# Altium integrated library Capacitors.IntLib: 87 symbols
Pins are listed as number, name and electrical type; pins without a type are passive.

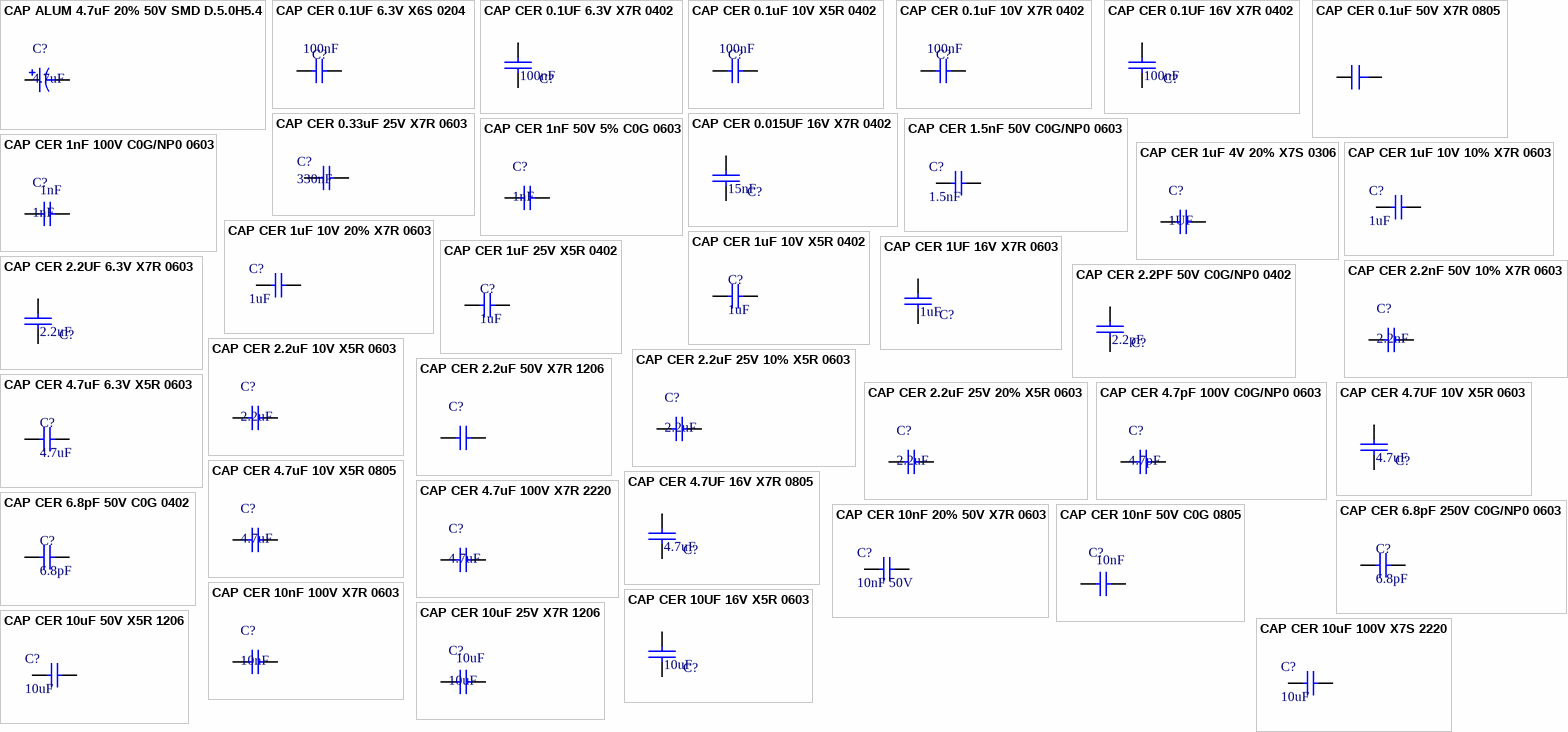
[diagram p0: symbols CAP ALUM 4.7uF 20% 50V SMD D.5.0H5.4 to CAP CER 10uF 100V X7S 2220]

## CAP ALUM 4.7uF 20% 50V SMD D.5.0H5.4
designator C?, comment 4.7uF
4.7µF 50V Aluminum Electrolytic Capacitors Radial, Can - SMD  2000 Hrs @ 85°C; Manufacturer 1: Nichicon; Part Number 1: UWX1H4R7MCL1GB; VALUE: 4.7uF
pins: 1, 2

## CAP CER 0.1UF 6.3V X6S 0204
designator C?, comment 100nF
0.1µF ±20% 6.3V Ceramic Capacitor X6S 0204 (0510 Metric); Part Number 1: LLL153C80J104ME01E; Manufacturer 1: Murata Electronics; VALUE: 100nF
footprint CAP_0204
pins: 1, 2

## CAP CER 0.1UF 6.3V X7R 0402
designator C?, comment 100nF
0.1µF ±10% 6.3V Ceramic Capacitor X7R 0402 (1005 Metric); PartNumber1: 0402B104K6R3CT; Value: 100nF
footprint SMD_0402
pins: 1, 2

## CAP CER 0.1uF 10V X5R 0402
designator C?, comment 100nF
0.1µF ±10% 10V Ceramic Capacitor X5R 0402 (1005 Metric); Manufacturer Part Number 1: CL05A104KP5NNNC; Manufacturer 1: Samsung Electro-Mechanics; TYPE: SMD CAPACITOR; Supplier 1: Allied; Supplier 2: Newark; Supplier 3: Newark; Supplier 4: Newark; Supplier 5: Allied; Supplier 6: Digi-Key; Supplier 7: Digi-Key; Supplier 8: Digi-Key; Supplier 9: Digi-Key; Supplier Part Number 1: 70095395; Supplier Part Number 2: 81C8514; Supplier Part Number 3: 96M1117; Supplier Part Number 4: 49H5566; Supplier Part Number 5: 70096886; Supplier Part Number 6: 445-12156-2-ND; Supplier Part Number 7: 445-12156-1-ND; Supplier Part Number 8: 445-12156-6-ND; Supplier Part Number 9: 445-12157-2-ND; VALUE: 100nF
footprint SMD_0402
pins: 1, 2

## CAP CER 0.1uF 10V X7R 0402
designator C?, comment 100nF
0.1µF ±10% 10V Ceramic Capacitor X7R 0402 (1005 Metric); Part Number 1: GRM155R71A104KA01J; Manufacturer 1: Murata Electronics North America; TYPE: SMD CAPACITOR; Supplier 1: Digi-Key; Supplier 2: Digi-Key; Supplier 3: Digi-Key; Supplier 4: Digi-Key; Supplier 5: Digi-Key; Supplier 6: Digi-Key; Supplier 7: Digi-Key; Supplier 8: Digi-Key; Supplier 9: Digi-Key; Supplier Part Number 1: 490-6322-2-ND; Supplier Part Number 2: 399-3520-6-ND; Supplier Part Number 3: 399-8942-1-ND; Supplier Part Number 4: 399-3520-1-ND; Supplier Part Number 5: 1276-1002-2-ND; Supplier Part Number 6: 399-8942-6-ND; Supplier Part Number 7: 490-6322-6-ND; Supplier Part Number 8: 399-3520-2-ND; Supplier Part Number 9: 490-6322-1-ND; VALUE: 100nF
footprint SMD_0402
pins: 1, 2

## CAP CER 0.1UF 16V X7R 0402
designator C?, comment value 100nF  (hidden comment: 0.1uF)
0.1µF ±5% 16V Ceramic Capacitor X7R 0402 (1005 Metric); PartNumber1: CC0402JRX7R7BB104
footprint SMD_0402
pins: 1, 2

## CAP CER 0.1uF 50V X7R 0805
designator C?, comment 0.1uF
0.1µF ±10% 50V Ceramic Capacitor X7R 0805 (2012 Metric); Manufacturer 1: AVX; AVX: 08055C104KAT2A; Part Number 1: 08055C104KAT2A
footprint SMD_0805 (Generic 0805 SMD footprint)
pins: 1, 2

## CAP CER 0.015UF 16V X7R 0402
designator C?, comment 15nF
0.015µF ±5% 16V Ceramic Capacitor X7R 0402 (1005 Metric); PartNumber1: 0402B104K6R3CT; Value: 15nF
footprint SMD_0402
pins: 1, 2

## CAP CER 0.33uF 25V X7R 0603
designator C?, comment 330nF
0.33µF ±10% 25V Ceramic Capacitor X7R 0603 (1608 Metric); Manufacturer 1: Yageo; Part Number 1: CC0603KRX7R8BB334
footprint SMD_0603 (General SMD 0603 footprint)
pins: 1, 2

## CAP CER 1.5nF 50V C0G/NP0 0603
designator C?, comment 1.5nF
1500pF ±5% 50V Ceramic Capacitor C0G, NP0 0603 (1608 Metric); Part Number 1: C0603C152J5GACTU; Manufacturer 1: KEMET
footprint SMD_0603 (General SMD 0603 footprint)
pins: 1, 2

## CAP CER 1nF 50V 5% C0G 0603
designator C?, comment 1nF
1000pF ±5% 50V Ceramic Capacitor C0G, NP0 0603 (1608 Metric); Manufacturer 1: MURATA; DESCRIPITION: GRM1885C1H102JA01D; Part Number 1: GRM1885C1H102JA01D; VALUE: 1nF
footprint SMD_0603 (General SMD 0603 footprint)
pins: 1, 2

## CAP CER 1nF 100V C0G/NP0 0603
designator C?, comment 1nF
1000pF ±1% 100V Ceramic Capacitor C0G, NP0 0603 (1608 Metric); Part Number 1: GRM1885C2A102FA01D; Manufacturer 1: Murata Electronics North America; TYPE: SMD CAPACITOR; VALUE: 1nF
footprint SMD_0603 (General SMD 0603 footprint)
pins: 1, 2

## CAP CER 1uF 4V 20% X7S 0306
designator C?, comment 1UF
1µF ±20% 4V Ceramic Capacitor X7S 0306 (0816 Metric); Part Number 1: C0816X7S0G105M050AC; Manufacturer 1: TDK Corporation
footprint SMD_0306 (General SMD 0306 footprint)
pins: 1, 2

## CAP CER 1uF 10V 10% X7R 0603
designator C?, comment 1uF
1µF ±10% 10V Ceramic Capacitor X7R 0603 (1608 Metric); Manufacturer 1: Taiyo Yuden; TAIYO: LMK107B7105KA-T; Part Number 1: LMK107B7105KA-T
footprint SMD_0603 (General SMD 0603 footprint)
pins: 1, 2

## CAP CER 1uF 10V 20% X7R 0603
designator C?, comment 1uF
1µF ±10% 16V Ceramic Capacitor X7R 0603 (1608 Metric); Manufacturer 1: Samsung Electro-Mechanics; Part Number 1: CL10B105KO8NNNC; MURATA: GRM188R71A105MA61D
footprint SMD_0603 (General SMD 0603 footprint)
pins: 1, 2

## CAP CER 1uF 10V X5R 0402
designator C?, comment 1uF
0.1µF ±10% 10V Ceramic Capacitor X5R 0402 (1005 Metric); Manufacturer 1: AVX Corporation; Part Number 1: 0402ZD104KAT2A; Supplier 1: Digi-Key; Supplier 2: Digi-Key; Supplier 3: Digi-Key; Supplier 4: Digi-Key; Supplier 5: Digi-Key; Supplier 6: Digi-Key; Supplier 7: Digi-Key; Supplier 8: Digi-Key; Supplier 9: Digi-Key; Supplier 10: Digi-Key; Supplier Part Number 1: 478-1129-6-ND; Supplier Part Number 2: 490-1318-2-ND; Supplier Part Number 3: 478-1129-1-ND; Supplier Part Number 4: 490-1318-6-ND; Supplier Part Number 5: 587-1227-1-ND; Supplier Part Number 6: 490-1318-1-ND; Supplier Part Number 7: 587-1227-2-ND; Supplier Part Number 8: 587-1227-6-ND; Supplier Part Number 9: 445-1265-2-ND; Supplier Part Number 10: 478-1129-2-ND; VALUE: 1uF
footprint SMD_0402
pins: 1, 2

## CAP CER 1UF 16V X7R 0603
designator C?, comment 1uF
1µF ±10% 16V Ceramic Capacitor X7R 0603 (1608 Metric); PartNumber1: CL10B105KO8NNNC; Value: 1uF
footprint SMD_0603 (General SMD 0603 footprint)
pins: 1, 2

## CAP CER 1uF 25V X5R 0402
designator C?, comment 1uF
1µF ±10% 25V Ceramic Capacitor X5R 0402 (1005 Metric); Manufacturer 1: TDK Corporation; Part Number 1: CGB2A1X5R1E105K033BC; VALUE: 1uF; Supplier 1: RSComponents; Supplier 2: RSComponents; Supplier 3: RSComponents; Supplier 4: RSComponents; Supplier 5: RSComponents; Supplier 6: Digi-Key; Supplier 7: Digi-Key; Supplier 8: Digi-Key; Supplier 9: Digi-Key; Supplier 10: Digi-Key; Supplier 11: Digi-Key; Supplier 12: Digi-Key; Supplier 13: Digi-Key; Supplier 14: Digi-Key; Supplier 15: Digi-Key; Supplier Part Number 1: 9156323; Supplier Part Number 2: 1110310; Supplier Part Number 3: 1110311; Supplier Part Number 4: 9156332P; Supplier Part Number 5: 9156323P; Supplier Part Number 6: 445-175215-2-ND; Supplier Part Number 7: 587-3245-2-ND; Supplier Part Number 8: 445-9081-6-ND; Supplier Part Number 9: 445-9066-6-ND; Supplier Part Number 10: 587-3245-1-ND; Supplier Part Number 11: 445-9066-1-ND; Supplier Part Number 12: 445-9081-1-ND; Supplier Part Number 13: 445-9081-2-ND; Supplier Part Number 14: 445-9066-2-ND; Supplier Part Number 15: 587-3245-6-ND
footprint SMD_0402
pins: 1, 2

## CAP CER 2.2nF 50V 10% X7R 0603
designator C?, comment 2.2nF
2200pF ±10% 50V Ceramic Capacitor X7R 0603 (1608 Metric); Part Number 1: C1608X7R1H222K080AE; Manufacturer 1: TDK Corporation; VALUE: 2.2nF
footprint SMD_0603 (General SMD 0603 footprint)
pins: 1, 2

## CAP CER 2.2PF 50V C0G/NP0 0402
designator C?, comment 2.2pF
2.2pF ±0.25pF 50V Ceramic Capacitor C0G, NP0 0402 (1005 Metric); PartNumber1: GJM1555C1H2R2CB01D; Value: 2.2pF
footprint SMD_0402
pins: 1, 2

## CAP CER 2.2UF 6.3V X7R 0603
designator C?, comment 2.2uF
2.2µF ±10% 6.3V Ceramic Capacitor X7R 0603 (1608 Metric); PartNumber1: CGA3E1X7R0J225K080AC; Value: 2.2uF
footprint SMD_0603 (General SMD 0603 footprint)
pins: 1, 2

## CAP CER 2.2uF 10V X5R 0603
designator C?, comment 2.2uF
2.2µF ±10% 10V Ceramic Capacitor X5R 0603 (1608 Metric); Manufacturer 1: Samsung Electro-Mechanics; Part Number 1: CL10A225KP8NNNC; VALUE: 2.2uF; Supplier 1: RSComponents; Supplier 2: Digi-Key; Supplier 3: Digi-Key; Supplier 4: Digi-Key; Supplier 5: Digi-Key; Supplier 6: Digi-Key; Supplier 7: Digi-Key; Supplier 8: Digi-Key; Supplier 9: Digi-Key; Supplier 10: RSComponents; Supplier 11: RSComponents; Supplier 12: Digi-Key; Supplier 13: RSComponents; Supplier 14: RSComponents; Supplier 15: Digi-Key; Supplier Part Number 1: 6911158; Supplier Part Number 2: 445-7481-1-ND; Supplier Part Number 3: 445-12445-1-ND; Supplier Part Number 4: 399-4912-1-ND; Supplier Part Number 5: 587-4911-2-ND; Supplier Part Number 6: 445-7481-6-ND; Supplier Part Number 7: 445-12445-6-ND; Supplier Part Number 8: 399-4912-2-ND; Supplier Part Number 9: 445-12445-2-ND; Supplier Part Number 10: 691-1158; Supplier Part Number 11: 1721386; Supplier Part Number 12: 399-4912-6-ND; Supplier Part Number 13: 6911158P; Supplier Part Number 14: 691-1158P; Supplier Part Number 15: 445-7481-2-ND
footprint SMD_0603 (General SMD 0603 footprint)
pins: 1, 2

## CAP CER 2.2uF 25V 10% X5R 0603
designator C?, comment 2.2uF
2.2µF ±10% 25V Ceramic Capacitor X5R 0603 (1608 Metric); Part Number 1: C1608X5R1E225K080AB; Manufacturer 1: TDK Corporation; VALUE: 2.2uF
footprint SMD_0603 (General SMD 0603 footprint)
pins: 1, 2

## CAP CER 2.2uF 25V 20% X5R 0603
designator C?, comment 2.2uF
2.2µF ±20% 25V Ceramic Capacitor X5R 0603 (1608 Metric); Part Number 1: C1608X5R1E225M080AB; Manufacturer 1: TDK Corporation; VALUE: 2.2uF
footprint SMD_0603 (General SMD 0603 footprint)
pins: 1, 2

## CAP CER 2.2uF 50V X7R 1206
designator C?, comment 2.2uF  (value not drawn)
2.2µF ±10% 50V Ceramic Capacitor X7R 1206 (3216 Metric); Part Number 1: UMK316B7225KL-T; Manufacturer 1: Taiyo Yuden; VALUE: 2.2uF
footprint SMD_1206 (General SMD 1206 footprint)
pins: 1, 2

## CAP CER 4.7pF 100V C0G/NP0 0603
designator C?, comment 4.7pF
4.7pF ±0.1pF 100V Ceramic Capacitor C0G, NP0 0603 (1608 Metric); Part Number 1: GQM1885C2A4R7BB01D; Manufacturer 1: Murata Electronics North America; VALUE: 4.7pF
footprint SMD_0603 (General SMD 0603 footprint)
pins: 1, 2

## CAP CER 4.7uF 6.3V X5R 0603
designator C?, comment 4.7uF
4.7µF ±10% 6.3V Ceramic Capacitor X5R 0603 (1608 Metric); Part Number 1: CL10A475KQ8NNNC; Manufacturer 1: Samsung Electro-Mechanics; Supplier 1: Digi-Key; Supplier 2: Digi-Key; Supplier 3: Digi-Key; Supplier 4: Digi-Key; Supplier 5: Digi-Key; Supplier 6: Digi-Key; Supplier 7: Digi-Key; Supplier 8: Digi-Key; Supplier 9: Digi-Key; Supplier Part Number 1: 587-4906-6-ND; Supplier Part Number 2: 1276-2087-2-ND; Supplier Part Number 3: 1276-2087-1-ND; Supplier Part Number 4: 1276-2087-6-ND; Supplier Part Number 5: 587-4906-2-ND; Supplier Part Number 6: 587-4906-1-ND; Supplier Part Number 7: 311-3496-2-ND; Supplier Part Number 8: 311-3496-1-ND; Supplier Part Number 9: 311-3496-6-ND; VALUE: 4.7uF
footprint SMD_0603 (General SMD 0603 footprint)
pins: 1, 2

## CAP CER 4.7UF 10V X5R 0603
designator C?, comment 4.7uF
4.7µF ±10% 10V Ceramic Capacitor X5R 0603 (1608 Metric); PartNumber1: CL10A475KP8NNNC; Value: 4.7uF
footprint SMD_0603 (General SMD 0603 footprint)
pins: 1, 2

## CAP CER 4.7uF 10V X5R 0805
designator C?, comment 4.7uF
4.7µF ±10% 10V Ceramic Capacitor X5R 0805 (2012 Metric); Part Number 1: LMK212BJ475KD-T; Manufacturer 1: Taiyo Yuden; VALUE: 4.7uF
footprint SMD_0805 (Generic 0805 SMD footprint)
pins: 1, 2

## CAP CER 4.7UF 16V X7R 0805
designator C?, comment 4.7uF
4.7µF ±10% 16V Ceramic Capacitor X7R 0805 (2012 Metric); PartNumber1: C0805C475K4RACTU; Value: 4.7uF
footprint SMD_0805 (Generic 0805 SMD footprint)
pins: 1, 2

## CAP CER 4.7uF 100V X7R 2220
designator C?, comment 4.7uF
4.7µF ±10% 100V Ceramic Capacitor X7R 2220 (5750 Metric); Part Number 1: 22201C475KAZ2A; Manufacturer 1: AVX Corporation; VALUE: 4.7uF
footprint SMD_2220
pins: 1, 2

## CAP CER 6.8pF 50V C0G 0402
designator C?, comment 6.8pF
6.8pF ±0.25pF 50V Ceramic Capacitor C0G, NP0 0402 (1005 Metric); Manufacturer Part Number 1: 04025A6R8CAT2A; Manufacturer 1: AVX Corporation; TYPE: SMD CAPACITOR; Supplier 1: Digi-Key; Supplier 2: Digi-Key; Supplier 3: Digi-Key; Supplier 4: Digi-Key; Supplier 5: RSComponents; Supplier 6: RSComponents; Supplier 7: Digi-Key; Supplier 8: Digi-Key; Supplier 9: Digi-Key; Supplier 10: Digi-Key; Supplier 11: Digi-Key; Supplier 12: Digi-Key; VALUE: 6.8pF; Supplier Part Number 1: 1276-1721-1-ND; Supplier Part Number 2: 1276-1721-6-ND; Supplier Part Number 3: 490-5950-2-ND; Supplier Part Number 4: 1276-1721-2-ND; Supplier Part Number 5: 1109726; Supplier Part Number 6: 9155578P; Supplier Part Number 7: 712-1291-2-ND; Supplier Part Number 8: 490-12599-1-ND; Supplier Part Number 9: 490-12599-6-ND; Supplier Part Number 10: 490-5950-6-ND; Supplier Part Number 11: 490-5950-1-ND; Supplier Part Number 12: 490-12599-2-ND
footprint SMD_0402
pins: 1, 2

## CAP CER 6.8pF 250V C0G/NP0 0603
designator C?, comment 6.8pF
6.8pF ±0.25pF 250V Ceramic Capacitor C0G, NP0 0603 (1608 Metric); Manufacturer 1: KEMET; Part Number 1: CBR06C689CAGAC; VALUE: 6.8pF
footprint SMD_0603 (General SMD 0603 footprint)
pins: 1, 2

## CAP CER 10nF 20% 50V X7R 0603
designator C?, comment 10nF 50V
10000pF ±10% 50V Ceramic Capacitor X7R 0603 (1608 Metric); Part Number 1: 06035C103KAT4A; Manufacturer 1: AVX Corporation; MURATA: GRM188R71H103KA01D; MOUSER: http://br.mouser.com/ProductDetail/Murata-Electronics/GRM188R71H103KA01D/?qs=WWniysbtxULrL2ljbViAbw==
footprint SMD_0603 (General SMD 0603 footprint)
pins: 1, 2

## CAP CER 10nF 50V C0G 0805
designator C?, comment 10nF
10000pF ±5% 50V Ceramic Capacitor C0G, NP0 0805 (2012 Metric); Manufacturer 1: TDK Corporation; Part Number 1: CGJ4C2C0G1H103J060AA; VALUE: 10nF
footprint SMD_0805 (Generic 0805 SMD footprint)
pins: 1, 2

## CAP CER 10nF 100V X7R 0603
designator C?, comment 10nF
10000pF ±10% 100V Ceramic Capacitor X7R 0603 (1608 Metric); Part Number 1: C1608X7R2A103K080AA; Manufacturer 1: TDK Corporation; VALUE: 10nF
footprint SMD_0603 (General SMD 0603 footprint)
pins: 1, 2

## CAP CER 10UF 16V X5R 0603
designator C?, comment 10uF
10µF ±10% 16V Ceramic Capacitor X5R 0603 (1608 Metric); PartNumber1: GRM188R61C106KAALD; Value: 10uF
footprint SMD_0603 (General SMD 0603 footprint)
pins: 1, 2

## CAP CER 10uF 25V X7R 1206
designator C?, comment 10uF
10µF ±10% 25V Ceramic Capacitor X7R 1206 (3216 Metric); Part Number 1: C3216X7R1E106K160AB; Manufacturer 1: TDK Corporation; VALUE: 10uF
footprint SMD_1206 (General SMD 1206 footprint)
pins: 1, 2

## CAP CER 10uF 50V X5R 1206
designator C?, comment 10uF
10µF ±20% 50V Ceramic Capacitor X5R 1206 (3216 Metric); Part Number 1: UMK316BBJ106ML-T; Manufacturer 1: Taiyo Yuden; VALUE: 10uF
footprint SMD_1206 (General SMD 1206 footprint)
pins: 1, 2

## CAP CER 10uF 100V X7S 2220
designator C?, comment 10uF
10µF ±20% 100V Ceramic Capacitor X7S 2220 (5750 Metric); Part Number 1: CGA9N3X7S2A106M230KE; Manufacturer 1: TDK Corporation
footprint SMD_2220
pins: 1, 2

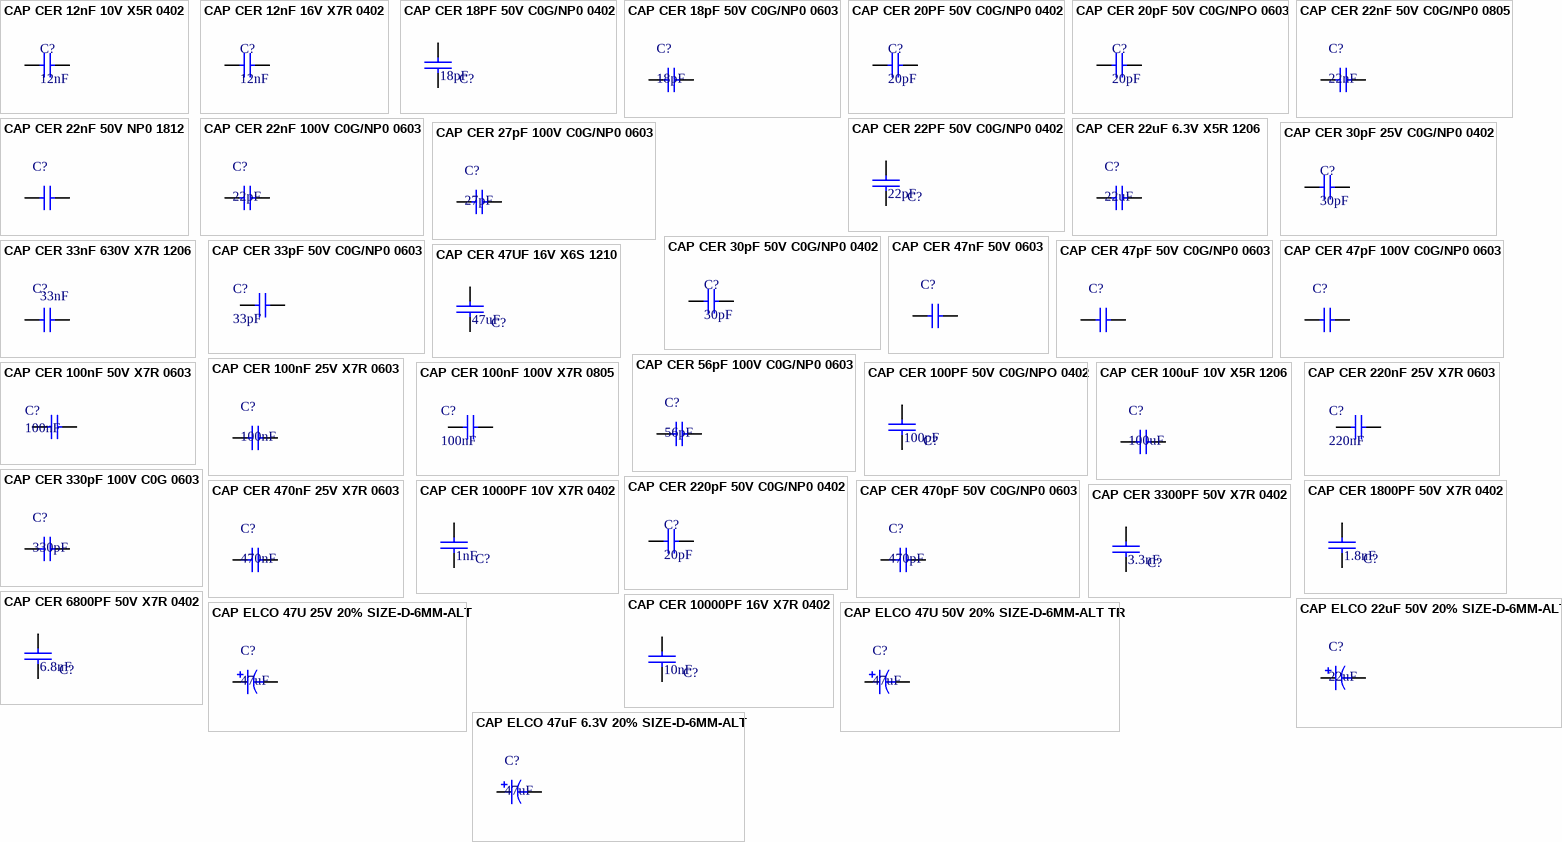
[diagram p1: symbols CAP CER 12nF 10V X5R 0402 to CAP ELCO 47uF 6.3V 20% SIZE-D-6MM-ALT]

## CAP CER 12nF 10V X5R 0402
designator C?, comment 12nF
0.012µF ±10% 10V Ceramic Capacitor X5R 0402 (1005 Metric); Manufacturer 1: KEMET; Part Number 1: C0402C123K8PACTU; VALUE: 12nF; Supplier 1: Digi-Key; Supplier 2: Digi-Key; Supplier 3: Digi-Key; Supplier Part Number 1: 399-3009-2-ND; Supplier Part Number 2: 399-3009-1-ND; Supplier Part Number 3: 399-3009-6-ND
footprint SMD_0402
pins: 1, 2

## CAP CER 12nF 16V X7R 0402
designator C?, comment 12nF
±10% 16V Ceramic Capacitor X7R 0402 (1005 Metric); Manufacturer 1: Yageo; Part Number 1: CC0402KRX7R7BB123; VALUE: 12nF; Supplier 1: Digi-Key; Supplier 2: Digi-Key; Supplier 3: Digi-Key; Supplier 4: RSComponents; Supplier 5: Digi-Key; Supplier 6: RSComponents; Supplier 7: Digi-Key; Supplier 8: RSComponents; Supplier 9: Digi-Key; Supplier 10: Digi-Key; Supplier 11: Digi-Key; Supplier 12: Digi-Key; Supplier 13: Digi-Key; Supplier 14: RSComponents; Supplier Part Number 1: 490-16765-2-ND; Supplier Part Number 2: 478-1115-2-ND; Supplier Part Number 3: 478-1115-6-ND; Supplier Part Number 4: 790-2789P; Supplier Part Number 5: 478-1115-1-ND; Supplier Part Number 6: 790-2789; Supplier Part Number 7: 311-3800-6-ND; Supplier Part Number 8: 7902789; Supplier Part Number 9: 490-3255-2-ND; Supplier Part Number 10: 490-16765-6-ND; Supplier Part Number 11: 311-3800-1-ND; Supplier Part Number 12: 311-3800-2-ND; Supplier Part Number 13: 490-16765-1-ND; Supplier Part Number 14: 7902789P
footprint SMD_0402
pins: 1, 2

## CAP CER 18PF 50V C0G/NP0 0402
designator C?, comment 18pF
18pF ±1% 50V Ceramic Capacitor C0G, NP0 0402 (1005 Metric); PartNumber1: GJM1555C1H180FB01D; Value: 18pF
footprint SMD_0402
pins: 1, 2

## CAP CER 18pF 50V C0G/NP0 0603
designator C?, comment 18pF
18pF ±5% 50V Ceramic Capacitor C0G, NP0 0603 (1608 Metric); Part Number 1: VJ0603A180JXACW1BC; Manufacturer 1: Vishay Vitramon; VALUE: 18pF
footprint SMD_0603 (General SMD 0603 footprint)
pins: 1, 2

## CAP CER 20PF 50V C0G/NP0 0402
designator C?, comment 20pF
20pF ±5% 50V Ceramic Capacitor C0G, NP0 0402 (1005 Metric); Manufacturer 1: Samsung Electro-Mechanics; Part Number 1: CL05C200JB5NNNC; VALUE: 20pF; Supplier 1: Digi-Key; Supplier 2: Digi-Key; Supplier 3: Digi-Key; Supplier 4: RSComponents; Supplier 5: Digi-Key; Supplier 6: Digi-Key; Supplier 7: Digi-Key; Supplier 8: Digi-Key; Supplier 9: RSComponents; Supplier 10: Digi-Key; Supplier 11: Digi-Key; Supplier 12: Digi-Key; Supplier 13: RSComponents; Supplier 14: RSComponents; Supplier 15: RSComponents; Supplier 16: RSComponents; Supplier 17: RSComponents; Supplier 18: RSComponents; Supplier 19: RSComponents; Supplier 20: RSComponents; Supplier 21: RSComponents; Supplier 22: RSComponents; Supplier 23: RSComponents; Supplier 24: RSComponents; Supplier 25: RSComponents; Supplier 26: RSComponents; Supplier 27: RSComponents; Supplier Part Number 1: 399-8786-1-ND; Supplier Part Number 2: 399-8786-2-ND; Supplier Part Number 3: 490-3120-6-ND; Supplier Part Number 4: 801-5167; Supplier Part Number 5: 712-1273-2-ND; Supplier Part Number 6: 399-8786-6-ND; Supplier Part Number 7: 478-5764-1-ND; Supplier Part Number 8: 490-3120-2-ND; Supplier Part Number 9: 801-5167P; Supplier Part Number 10: 490-3120-1-ND; Supplier Part Number 11: 478-5764-2-ND; Supplier Part Number 12: 478-5764-6-ND; Supplier Part Number 13: 8015167; Supplier Part Number 14: 814-5561; Supplier Part Number 15: 8145561; Supplier Part Number 16: 814-5561P; Supplier Part Number 17: 8145558; Supplier Part Number 18: 1352536; Supplier Part Number 19: 7697080P; Supplier Part Number 20: 814-5558; Supplier Part Number 21: 7697080; Supplier Part Number 22: 8145561P; Supplier Part Number 23: 769-7080; Supplier Part Number 24: 814-5558P; Supplier Part Number 25: 769-7080P; Supplier Part Number 26: 8145558P; Supplier Part Number 27: 8015167P
footprint SMD_0402
pins: 1, 2

## CAP CER 20pF 50V C0G/NPO 0603
designator C?, comment 20pF
20pF ±5% 50V Ceramic Capacitor C0G, NP0 0603 (1608 Metric); Part Number 1: CC0603JRNPO9BN200; Manufacturer 1: Yageo; VALUE: 20pF
footprint SMD_0603 (General SMD 0603 footprint)
pins: 1, 2

## CAP CER 22nF 50V C0G/NP0 0805
designator C?, comment 22nF
0.022µF ±5% 50V Ceramic Capacitor C0G, NP0 0805 (2012 Metric); Part Number 1: GRM21B5C1H223JA01L; Manufacturer 1: Murata Electronics North America; VALUE: 22nF
footprint SMD_0805 (Generic 0805 SMD footprint)
pins: 1, 2

## CAP CER 22nF 50V NP0 1812
designator C?, comment 22nF  (value not drawn)
0.022µF ±5% 50V Ceramic Capacitor C0G, NP0 1812 (4532 Metric); Manufacturer 1: AVX Corporation; Part Number 1: 18125A223JAT2A; VALUE: 22nF
footprint SMD_1812 (General SMD 1812 footprint)
pins: 1, 2

## CAP CER 22nF 100V C0G/NP0 0603
designator C?, comment 22pF
22pF ±5% 100V Ceramic Capacitor C0G, NP0 0603 (1608 Metric); Manufacturer 1: Murata Electronics North America; Part Number 1: GRM1885C2A220JA01D; VALUE: 22pF
footprint SMD_0603 (General SMD 0603 footprint)
pins: 1, 2

## CAP CER 22PF 50V C0G/NP0 0402
designator C?, comment 22pF
22pF ±1% 50V Ceramic Capacitor C0G, NP0 0402 (1005 Metric); PartNumber1: CBR04C220F5GAC; Value: 22pF
footprint SMD_0402
pins: 1, 2

## CAP CER 22uF 6.3V X5R 1206
designator C?, comment 22uF
22µF ±10% 6.3V Ceramic Capacitor X5R 1206 (3216 Metric); Manufacturer 1: Samsung Electro-Mechanics; Part Number 1: CL31A226KQHNNNE; VALUE: 22uF
footprint SMD_1206 (General SMD 1206 footprint)
pins: 1, 2

## CAP CER 27pF 100V C0G/NP0 0603
designator C?, comment 27pF
27pF ±10% 100V Ceramic Capacitor C0G, NP0 0603 (1608 Metric); Manufacturer 1: AVX Corporation; Part Number 1: 06031A270KAT2A; VALUE: 27pF
footprint SMD_0603 (General SMD 0603 footprint)
pins: 1, 2

## CAP CER 30pF 25V C0G/NP0 0402
designator C?, comment 30pF
30pF ±2% 25V Ceramic Capacitor C0G, NP0 0402 (1005 Metric); VALUE: 30pF; Supplier 1: Digi-Key; Supplier 2: Digi-Key; Supplier 3: Digi-Key; Supplier 4: Digi-Key; Supplier 5: Digi-Key; Supplier 6: Digi-Key; Supplier 7: Farnell; Supplier 8: Newark; Supplier 9: Digi-Key; Supplier 10: Digi-Key; Supplier 11: Newark; Supplier 12: Digi-Key; Supplier 13: Digi-Key; Supplier 14: Farnell; Supplier 15: Farnell; Supplier 16: Farnell; Supplier 17: Farnell; Supplier Part Number 1: 490-8176-1-ND; Supplier Part Number 2: 490-8176-2-ND; Supplier Part Number 3: 712-1596-2-ND; Supplier Part Number 4: 712-1595-6-ND; Supplier Part Number 5: 490-8176-6-ND; Supplier Part Number 6: 712-1595-1-ND; Supplier Part Number 7: 2678276; Supplier Part Number 8: 96M1336; Supplier Part Number 9: 712-1596-1-ND; Supplier Part Number 10: 490-7752-2-ND; Supplier Part Number 11: 96Y8175; Supplier Part Number 12: 712-1596-6-ND; Supplier Part Number 13: 712-1595-2-ND; Supplier Part Number 14: 2678259; Supplier Part Number 15: 2680053; Supplier Part Number 16: 2280762; Supplier Part Number 17: 1740653
footprint SMD_0402
pins: 1, 2

## CAP CER 30pF 50V C0G/NP0 0402
designator C?, comment 30pF
30pF ±5% 50V Ceramic Capacitor C0G, NP0 0402 (1005 Metric); Manufacturer 1: Samsung Electro-Mechanics; Part Number 1: CL05C300JB5NNNC; VALUE: 30pF; Supplier 1: RSComponents; Supplier 2: RSComponents; Supplier 3: RSComponents; Supplier 4: RSComponents; Supplier 5: Digi-Key; Supplier 6: Digi-Key; Supplier 7: Digi-Key; Supplier 8: Digi-Key; Supplier 9: Digi-Key; Supplier 10: Digi-Key; Supplier 11: Digi-Key; Supplier 12: Digi-Key; Supplier 13: Digi-Key; Supplier 14: Digi-Key; Supplier Part Number 1: 8145634P; Supplier Part Number 2: 8145634; Supplier Part Number 3: 814-5634P; Supplier Part Number 4: 814-5634; Supplier Part Number 5: 399-7785-2-ND; Supplier Part Number 6: 712-1295-1-ND; Supplier Part Number 7: 712-1296-2-ND; Supplier Part Number 8: 712-1296-6-ND; Supplier Part Number 9: 712-1295-2-ND; Supplier Part Number 10: 712-1296-1-ND; Supplier Part Number 11: 712-1295-6-ND; Supplier Part Number 12: 490-5935-1-ND; Supplier Part Number 13: 490-5935-6-ND; Supplier Part Number 14: 490-5935-2-ND
footprint SMD_0402
pins: 1, 2

## CAP CER 33nF 630V X7R 1206
designator C?, comment 33nF
0.033µF ±10% 630V Ceramic Capacitor X7R 1206 (3216 Metric); Manufacturer 1: TDK Corporation; Part Number 1: C3216X7R2J333K160AA; Supplier 1: Digi-Key; Supplier 2: Digi-Key; Supplier 3: Digi-Key; Supplier 4: Arrow; Supplier 5: Mouser; Supplier 6: RSComponents; Supplier 7: Avnet; Supplier 8: Avnet; Supplier 9: Farnell; Supplier 10: RSComponents; Supplier 11: RSComponents; Supplier 12: Newark; Supplier 13: Newark; Supplier 14: Newark; Supplier 15: RSComponents; Supplier 16: RSComponents; Supplier 17: Arrow; Supplier 18: Future Electronics; Supplier 19: Future Electronics; Supplier Part Number 9: 1844644; Supplier Part Number 8: C3216X7R2J333K160AA; Supplier Part Number 7: 91R0107; Supplier Part Number 6: 740-7644P; Supplier Part Number 5: 810-C3216X7R2J333K; Supplier Part Number 4: C3216X7R2J333K160AA; Supplier Part Number 3: 445-4491-2-ND; Supplier Part Number 2: 445-4491-6-ND; Supplier Part Number 19: C3216X7R2J333K160AA; Supplier Part Number 18: 8024090; Supplier Part Number 17: C3216X7R2J333K160AA**MUL; Supplier Part Number 16: 740-7644; Supplier Part Number 15: 7407644P; Supplier Part Number 14: 91R0107; Supplier Part Number 13: 27AC3698; Supplier Part Number 12: 87R4381; Supplier Part Number 11: 7407644; Supplier Part Number 10: 9213965; Supplier Part Number 1: 445-4491-1-ND; VALUE: 33nF
footprint SMD_1206 (General SMD 1206 footprint)
pins: 1, 2

## CAP CER 33pF 50V C0G/NP0 0603
designator C?, comment 33pF
33pF ±5% 50V Ceramic Capacitor C0G, NP0 0603 (1608 Metric); Manufacturer 1: Murata Electronics North America; MURATA: GRM1885C1H330JA01D; Part Number 1: GRM1885C1H330JA01D
footprint SMD_0603 (General SMD 0603 footprint)
pins: 1, 2

## CAP CER 47nF 50V 0603
designator C?, comment 47nF  (value not drawn)
0.047µF ±10% 50V Ceramic Capacitor X7R 0603 (1608 Metric); Manufacturer 1: TDK Corporation; Part Number 1: CGA3E2X7R1H473K080AD
footprint SMD_0603 (General SMD 0603 footprint)
pins: 1, 2

## CAP CER 47pF 50V C0G/NP0 0603
designator C?, comment 47pF  (value not drawn)
47pF ±5% 50V Ceramic Capacitor C0G, NP0 0603 (1608 Metric); Part Number 1: 06035A470JAT2A; Manufacturer 1: AVX Corporation; TYPE: SMD CAPACITOR; VALUE: 47pF; Supplier 1: Digi-Key; Supplier 2: Digi-Key; Supplier 3: Digi-Key; Supplier 4: Digi-Key; Supplier 5: Digi-Key; Supplier 6: Digi-Key; Supplier 7: Digi-Key; Supplier 8: Digi-Key; Supplier 9: Digi-Key; Supplier Part Number 1: 478-1171-2-ND; Supplier Part Number 2: 478-1171-6-ND; Supplier Part Number 3: 709-1145-6-ND; Supplier Part Number 4: 709-1145-1-ND; Supplier Part Number 5: 709-1145-2-ND; Supplier Part Number 6: 478-1171-1-ND; Supplier Part Number 7: 478-6203-6-ND; Supplier Part Number 8: 478-6203-1-ND; Supplier Part Number 9: 478-6203-2-ND
footprint SMD_0603 (General SMD 0603 footprint)
pins: 1, 2

## CAP CER 47pF 100V C0G/NP0 0603
designator C?, comment 47pF  (value not drawn)
47pF ±10% 100V Ceramic Capacitor C0G, NP0 0603 (1608 Metric); Part Number 1: 06031A470KAT2A; Manufacturer 1: AVX Corporation; VALUE: 47pF
footprint SMD_0603 (General SMD 0603 footprint)
pins: 1, 2

## CAP CER 47UF 16V X6S 1210
designator C?, comment 47uF
47µF ±10% 16V Ceramic Capacitor X6S 1210 (3225 Metric); PartNumber1: GRM32EC81C476KE15L; Value: 47uF
footprint SMD_1210 (General SMD 1210 footprint)
pins: 1, 2

## CAP CER 56pF 100V C0G/NP0 0603
designator C?, comment 56pF
56pF ±5% 100V Ceramic Capacitor C0G, NP0 0603 (1608 Metric); Part Number 1: 06031A560JAT2A; Manufacturer 1: AVX Corporation; VALUE: 56pF; Supplier 1: Digi-Key; Supplier 2: Digi-Key; Supplier 3: Digi-Key; Supplier 4: Future Electronics; Supplier 5: Avnet; Supplier 6: Arrow; Supplier 7: Mouser; Supplier 8: Farnell; Supplier 9: RSComponents; Supplier 10: Newark; Supplier 11: Allied Electronics; Supplier 12: Newark; Supplier 13: RSComponents; Supplier 14: Future Electronics; Supplier 15: Future Electronics; Supplier 16: Future Electronics; Supplier Part Number 1: 478-4993-1-ND; Supplier Part Number 10: 65H7693; Supplier Part Number 11: 70001392; Supplier Part Number 12: 96M1230; Supplier Part Number 13: 888-2046; Supplier Part Number 14: 06031A560JAT2A-REEL; Supplier Part Number 15: 1234939; Supplier Part Number 16: 6999544; Supplier Part Number 2: 478-4993-6-ND; Supplier Part Number 3: 478-4993-2-ND; Supplier Part Number 4: 06031A560JAT2A-CUTT; Supplier Part Number 5: 06031A560JAT2A; Supplier Part Number 9: 8882046; Supplier Part Number 8: 1396454; Supplier Part Number 6: 06031A560JAT2A; Supplier Part Number 7: 581-06031A560J
footprint SMD_0603 (General SMD 0603 footprint)
pins: 1, 2

## CAP CER 100nF 25V X7R 0603
designator C?, comment 100nF
0.1µF ±5% 25V Ceramic Capacitor X7R 0603 (1608 Metric); Part Number 1: C0603C104J3RACTU; Manufacturer 1: KEMET; VALUE: 100nF; Supplier 1: Digi-Key; Supplier 2: Digi-Key; Supplier 3: Digi-Key; Supplier 4: Farnell; Supplier 5: Arrow; Supplier 6: Mouser; Supplier 7: RSComponents; Supplier 8: RSComponents; Supplier 9: Farnell; Supplier 10: Farnell; Supplier 11: Avnet; Supplier 12: RSComponents; Supplier 13: Newark; Supplier 14: Newark; Supplier 15: Newark; Supplier 16: Allied Electronics; Supplier 17: Allied Electronics; Supplier 18: Newark; Supplier 19: Newark; Supplier 20: RSComponents; Supplier 21: RSComponents; Supplier 22: Arrow; Supplier 23: Avnet; Supplier 24: Avnet; Supplier 25: Avnet; Supplier Part Number 1: 399-1282-1-ND; Supplier Part Number 10: 2392300; Supplier Part Number 11: C0603C104J3RACTU; Supplier Part Number 12: 1466422; Supplier Part Number 13: 66W8707; Supplier Part Number 14: 79C3853; Supplier Part Number 15: 01J3308; Supplier Part Number 16: 70096967; Supplier Part Number 17: 70095456; Supplier Part Number 5: C0603C104J3RACTU; Supplier Part Number 4: 1650833; Supplier Part Number 3: 399-1282-2-ND; Supplier Part Number 25: C0603C104J3RAC TU; Supplier Part Number 24: C0603C104J3RAC TU/BKN; Supplier Part Number 23: C0603C104J3RAC>; Supplier Part Number 22: C0603C104J3RACTU**MULT1; Supplier Part Number 21: 801-5237P; Supplier Part Number 20: 801-5237; Supplier Part Number 2: 399-1282-6-ND; Supplier Part Number 19: 36X2612; Supplier Part Number 18: 32X7059; Supplier Part Number 9: 1650833RL; Supplier Part Number 8: 8015237; Supplier Part Number 7: 8015237P; Supplier Part Number 6: 80-C0603C104J3R
footprint SMD_0603 (General SMD 0603 footprint)
pins: 1, 2

## CAP CER 100nF 50V X7R 0603
designator C?, comment 100nF
0.1µF ±20% 50V Ceramic Capacitor X7R 0603 (1608 Metric); Manufacturer 1: AVX Corporation; Part Number 1: 06035C104MAT2A
footprint SMD_0603 (General SMD 0603 footprint)
pins: 1, 2

## CAP CER 100nF 100V X7R 0805
designator C?, comment 100nF
0.1µF ±10% 100V Ceramic Capacitor X7R 0805 (2012 Metric); Manufacturer 1: Murata Electronics North America; MURATA: GCM21BR72A104KA37L; Part Number 1: GCM21BR72A104KA37L
footprint SMD_0805 (Generic 0805 SMD footprint)
pins: 1, 2

## CAP CER 100PF 50V C0G/NPO 0402
designator C?, comment 100pF
100pF ±5% 50V Ceramic Capacitor C0G, NP0 0402 (1005 Metric); PartNumber1: CC0402JRNPO9BN101; Value: 100pF
footprint SMD_0402
pins: 1, 2

## CAP CER 100uF 10V X5R 1206
designator C?, comment 100uF
100µF ±20% 10V Ceramic Capacitor X5R 1206 (3216 Metric); Part Number 1: C3216X5R1A107M160AC; Manufacturer 1: TDK Corporation; VALUE: 100uF
footprint SMD_1206 (General SMD 1206 footprint)
pins: 1, 2

## CAP CER 220nF 25V X7R 0603
designator C?, comment 220nF
0.22µF ±10% 25V Ceramic Capacitor X7R 0603 (1608 Metric); Manufacturer 1: Taiyo Yuden; TAIYO: TMK107B7224KA-T; Part Number 1: TMK107B7224KA-T
footprint SMD_0603 (General SMD 0603 footprint)
pins: 1, 2

## CAP CER 220pF 50V C0G/NP0 0402
designator C?, comment 20pF
220pF ±5% 50V Ceramic Capacitor C0G, NP0 0402 (1005 Metric); Part Number 1: GRM1555C1H221JA01D; Manufacturer 1: Murata Electronics North America; VALUE: 20pF
footprint SMD_0402
pins: 1, 2

## CAP CER 330pF 100V C0G 0603
designator C?, comment 330pF
330pF ±5% 100V Ceramic Capacitor C0G, NP0 0603 (1608 Metric); Part Number 1: C1608C0G2A331J080AA; Manufacturer 1: TDK Corporation; VALUE: 330pF
footprint SMD_0603 (General SMD 0603 footprint)
pins: 1, 2

## CAP CER 470nF 25V X7R 0603
designator C?, comment 470nF
0.47µF ±10% 25V Ceramic Capacitor X7R 0603 (1608 Metric); Manufacturer 1: AVX Corporation; Part Number 1: 06033C474KAT2A; VALUE: 470nF
footprint SMD_0603 (General SMD 0603 footprint)
pins: 1, 2

## CAP CER 470pF 50V C0G/NP0 0603
designator C?, comment 470pF
470pF ±5% 50V Ceramic Capacitor C0G, NP0 0603 (1608 Metric); Part Number 1: GRM1885C1H471JA01D; Manufacturer 1: Murata Electronics North America; VALUE: 470pF
footprint SMD_0603 (General SMD 0603 footprint)
pins: 1, 2

## CAP CER 1000PF 10V X7R 0402
designator C?, comment value 1nF  (hidden comment: 1n)
1000pF ±10% 10V Ceramic Capacitor X7R 0402 (1005 Metric); PartNumber1: C0402C102K8RACTU
footprint SMD_0402
pins: 1, 2

## CAP CER 1800PF 50V X7R 0402
designator C?, comment 1.8nF
1800pF ±10% 50V Ceramic Capacitor X7R 0402 (1005 Metric); PartNumber1: CC0402KRX7R9BB182; Value: 1.8nF
footprint SMD_0402
pins: 1, 2

## CAP CER 3300PF 50V X7R 0402
designator C?, comment 3.3nF
3300pF ±5% 50V Ceramic Capacitor X7R 0402 (1005 Metric); PartNumber1: CC0402JRX7R9BB332; Value: 3.3nF
footprint SMD_0402
pins: 1, 2

## CAP CER 6800PF 50V X7R 0402
designator C?, comment 6.8nF
6800pF ±10% 50V Ceramic Capacitor X7R 0402 (1005 Metric); PartNumber1: 0402B682K500CT; Value: 6.8nF
footprint SMD_0402
pins: 1, 2

## CAP CER 10000PF 16V X7R 0402
designator C?, comment value 10nF  (hidden comment: 10000pF)
10000pF ±5% 16V Ceramic Capacitor X7R 0402 (1005 Metric); PartNumber1: CL05B103JO5NNNC
footprint SMD_0402
pins: 1, 2

## CAP ELCO 22uF 50V 20% SIZE-D-6MM-ALT
designator C?, comment 22uF
22µF 50V Aluminum Electrolytic Capacitors Radial, Can - SMD  2000 Hrs @ 105°C; Part Number 1: EEE-FK1H220P; Manufacturer 1: Panasonic Electronic Components; VALUE: 22uF
footprint CAPFK Size D (Aluminum Electrolytic Capacitors / Surface Mount Type / Series: FK Type: V)
pins: 1, 2

## CAP ELCO 47U 25V 20% SIZE-D-6MM-ALT
designator C?, comment 47uF
47µF 25V Aluminum Electrolytic Capacitors Radial, Can - SMD  2000 Hrs @ 105°C; Part Number 1: UCL1E470MCL1GS; Manufacturer 1: Nichicon; VALUE: 47uF
footprint CAPFK Size D (Aluminum Electrolytic Capacitors / Surface Mount Type / Series: FK Type: V)
pins: 1, 2

## CAP ELCO 47U 50V 20% SIZE-D-6MM-ALT TR
designator C?, comment 47uF
47µF 50V Aluminum Electrolytic Capacitors Radial, Can - SMD  2000 Hrs @ 85°C; Manufacturer 1: Panasonic Electronic Components; Part Number 1: EEE-1HA470XP; VALUE: 47uF
footprint CAPFK Size D (Aluminum Electrolytic Capacitors / Surface Mount Type / Series: FK Type: V)
pins: 1, 2

## CAP ELCO 47uF 6.3V 20% SIZE-D-6MM-ALT
designator C?, comment 47uF
47µF 6.3V Aluminum Electrolytic Capacitors Radial, Can - SMD  2000 Hrs @ 85°C; Part Number 1: EEE-0JA470SR; Manufacturer 1: Panasonic Electronic Components; VALUE: 47uF
footprint CAPFK Size D (Aluminum Electrolytic Capacitors / Surface Mount Type / Series: FK Type: V)
pins: 1, 2

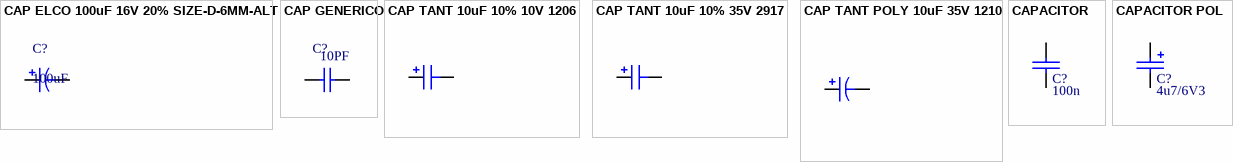
[diagram p2: symbols CAP ELCO 100uF 16V 20% SIZE-D-6MM-ALT to CAPACITOR POL]

## CAP ELCO 100uF 16V 20% SIZE-D-6MM-ALT
designator C?, comment 100uF
100µF 16V Aluminum Electrolytic Capacitors Radial, Can - SMD  2000 Hrs @ 105°C; Part Number 1: UUD1C101MCL1GS; Manufacturer 1: Nichicon; VALUE: 100uF
footprint CAPFK Size D (Aluminum Electrolytic Capacitors / Surface Mount Type / Series: FK Type: V)
pins: 1, 2

## CAP GENERICO
designator C?  value 10PF  (hidden comment: *)
TYPE: CAPACITOR
pins: 1, 2

## CAP TANT 10uF 10% 10V 1206
designator C?, comment 10uF
10µF Molded Tantalum Capacitors 10V 1206 (3216 Metric) 3.8Ohm; Part Number 1: T491A106K010AT; Manufacturer 1: KEMET
footprint CAP TANT CASE A - 1206 EIA (KEMET SERIES)
pins: 1, 2

## CAP TANT 10uF 10% 35V 2917
designator C?, comment 10uF
10µF Molded Tantalum Capacitors 35V 2917 (7343 Metric) 800mOhm; Part Number 1: 293D106X9035D2TE3; Manufacturer 1: Vishay Sprague
footprint CAP TANT CASE D - 2917 EIA (AVX SERIES)
pins: 1, 2

## CAP TANT POLY 10uF 35V 1210
designator C?, comment 10uF
10µF Molded Tantalum Polymer Capacitor 35V 1411 (3528 Metric), 1210 200mOhm @ 100kHz; Part Number 1: TCJB106M035R0200; Manufacturer 1: AVX Corporation
footprint RUBS
pins: 1, 2

## CAPACITOR
designator C?, comment 100n
pins: 1, 2

## CAPACITOR POL
designator C?, comment 4u7/6V3
pins: 1, 2